# EAGLE library part DS3658 (library BillPorter)
DS3658 Quad Relay Driver with Clamp Diodes. Great for driving Relays off a microcontroller pin. No external diode required. Spec Sheet @ http://www.national.com/ds/DS/DS3658.pdf
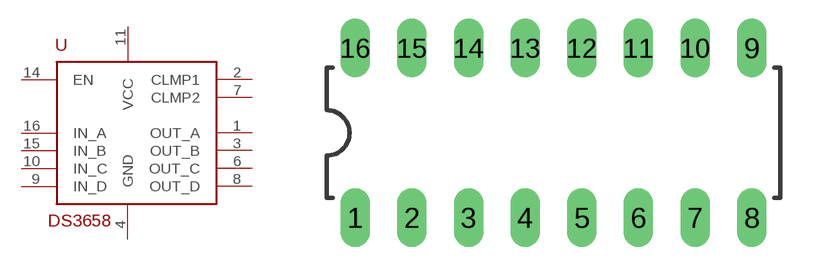
[diagram p6: symbol with the pads of DIP-16; footprint DIP-16]

Designator prefix -

## DS3658  [DIP-16]
1  OUT_A
2  CLMP1
3  OUT_B
4  GND  pwr
5  GND  pwr
6  OUT_C
7  CLMP2
8  OUT_D
9  IN_D
10  IN_C
11  VCC  pwr
12  GND  pwr
13  GND  pwr
14  EN
15  IN_B
16  IN_A

## Footprint DIP-16 (pad centres in mm)
drill 0.813 long: 1 -8.89,-3.81; 2 -6.35,-3.81; 3 -3.81,-3.81; 4 -1.27,-3.81; 5 1.27,-3.81; 6 3.81,-3.81; 7 6.35,-3.81; 8 8.89,-3.81; 9 8.89,3.81; 10 6.35,3.81; 11 3.81,3.81; 12 1.27,3.81; 13 -1.27,3.81; 14 -3.81,3.81; 15 -6.35,3.81; 16 -8.89,3.81